# Altium footprint library epm240.PCBLIB: 11 footprints
Each footprint in its own frame and in the unit in brackets; x right, y up, seen from the top. Pads: shape width x height; smd on the part's side, far side on the other; paste and mask are expansions set on the pad; w line width, h text height; cw(c..) or ccw(c..) is an arc to the next point about the centre after c.
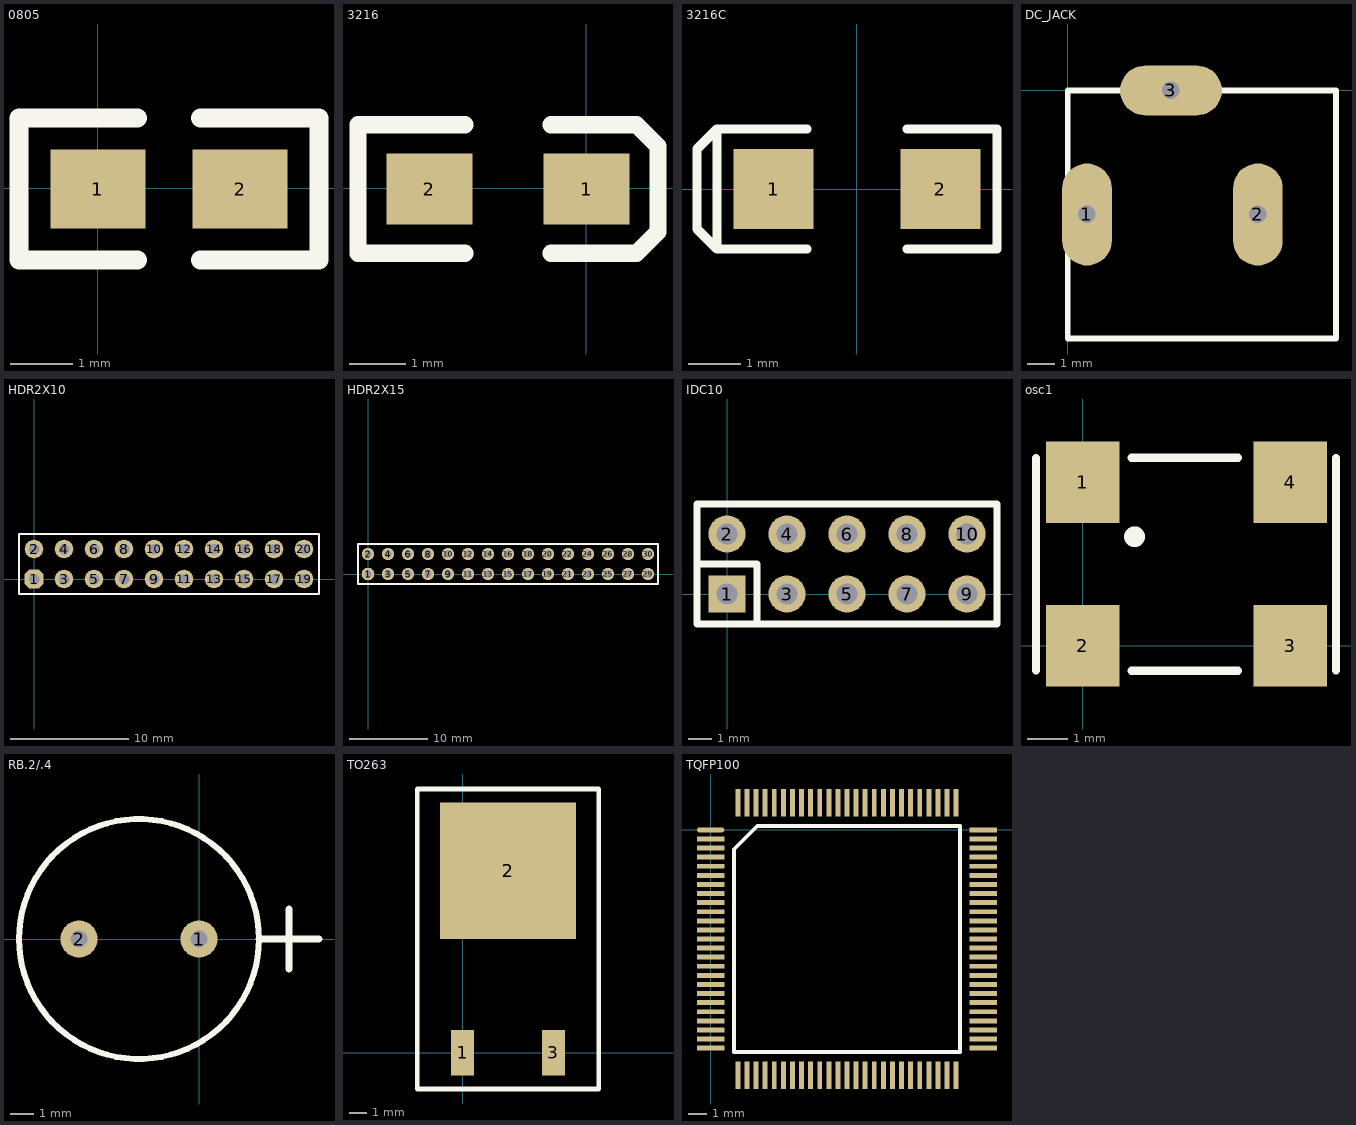
[diagram p0: the footprints below, top view; thin cyan lines are the x and y axes]

## 0805 [mil]
pads (2):
  rect 60x50 smd: 1(0.11,-0.39) 2(90.11,-0.39)
TopOverlay:
  lines w12: 25.11,-45.39 -49.89,-45.39 -49.89,44.61 25.11,44.61 ; 65.11,-45.39 140.11,-45.39 140.11,44.61 65.11,44.61

## 3216 [mil]
pads (2):
  rect 60x50 smd: 1(0.11,-0.39) 2(-109.89,-0.39)
TopOverlay:
  lines w12: -84.89,-45.39 -159.89,-45.39 -159.89,44.61 -84.89,44.61 ; -24.89,-45.39 35.11,-45.39 50.11,-30.39 50.11,29.61 35.11,44.61 -24.89,44.61

## 3216C [mil]
pads (2):
  rect 60x60 smd: 1(-62.47,0.11) 2(62.53,0.11)
TopOverlay:
  lines w7: -37.47,-44.89 -104.97,-44.89 ; -37.47,45.11 -104.97,45.11 ; 37.53,-44.89 105.03,-44.89 105.03,45.11 37.53,45.11 ; -104.97,-44.89 -104.97,45.11 ; -104.97,-44.89 -119.97,-29.89 -119.97,30.11 -104.97,45.11

## DC_JACK [mm]
pads (3):
  oval 1.8x3.7 hole 0.635: 1(0.7,-4.5) 2(6.9,-4.5)
  oval 3.7x1.8 hole 0.635: 3(3.748,0)
TopOverlay:
  lines w0.203: 0,-9 9.736,-9 9.736,0 0,0 0,-9

## HDR2X10 [mil]
pads (20):
  oct 62x62 hole 35: 1(0,0)
  round 62 hole 35: 2(0,100) 3(100,0) 4(100,100) 5(200,0) 6(200,100) 7(300,0) 8(300,100) 9(400,0) 10(400,100) 11(500,0) 12(500,100) 13(600,0) 14(600,100) 15(700,0) 16(700,100) 17(800,0) 18(800,100) 19(900,0) 20(900,100)
TopOverlay:
  lines w8: -50,-50 25,-50 950,-50 950,150 25,150 -50,150 -50,-50

## HDR2X15 [mil]
pads (30):
  oct 62x62 hole 35: 1(0,0)
  round 62 hole 35: 2(0,100) 3(100,0) 4(100,100) 5(200,0) 6(200,100) 7(300,0) 8(300,100) 9(400,0) 10(400,100) 11(500,0) 12(500,100) 13(600,0) 14(600,100) 15(700,0) 16(700,100) 17(800,0) 18(800,100) 19(900,0) 20(900,100) 21(1000,0) 22(1000,100) 23(1100,0) 24(1100,100) 25(1200,0) 26(1200,100) 27(1300,0) 28(1300,100) 29(1400,0) 30(1400,100)
TopOverlay:
  lines w8: -50,-50 1450,-50 1450,150 -50,150 -50,-50

## IDC10 [mil]
pads (10):
  rect 62x62 hole 35: 1(0,0)
  round 62 hole 35: 2(0,100) 3(100,0) 4(100,100) 5(200,0) 6(200,100) 7(300,0) 8(300,100) 9(400,0) 10(400,100)
TopOverlay:
  lines w12: -50,50 50,50 50,-50 ; -50,-50 450,-50 450,150 -50,150 -50,-50

## osc1 [mm]
pads (4):
  rect 1.8x2 smd: 1(0,4) 2(0,0) 3(5.08,0) 4(5.08,4)
TopOverlay:
  circle w0.254: c1.27,2.667 r0.127
  lines w0.2: -1.141,-0.61 -1.141,4.59 ; 1.2,-0.61 3.8,-0.61 ; 1.2,4.6 3.8,4.6 ; 6.2,-0.61 6.2,4.59

## RB.2/.4 [mil]
pads (2):
  round 62 hole 28: 1(0,0) 2(-200,0)
TopOverlay:
  circle w10: c-100,0 r200
  lines w12: 100,0 200,0 ; 150,-50 150,50

## TO263 [mm]
pads (3):
  rect 1.27x2.54 smd: 1(0,0) 3(5.08,0)
  rect 7.62x7.62 smd: 2(2.54,10.16)
TopOverlay:
  lines w0.254: -2.54,-2.032 -2.54,0 -2.54,14.732 7.62,14.732 7.62,-2.032 -2.54,-2.032

## TQFP100 [mm]
pads (100):
  oval 1.5x0.27 smd: 1(0,0)
  rect 1.5x0.27 smd: 2(0,-0.5) 3(0,-1) 4(0,-1.5) 5(0,-2) 6(0,-2.5) 7(0,-3) 8(0,-3.5) 9(0,-4) 10(0,-4.5) 11(0,-5) 12(0,-5.5) 13(0,-6) 14(0,-6.5) 15(0,-7) 16(0,-7.5) 17(0,-8) 18(0,-8.5) 19(0,-9) 20(0,-9.5) 21(0,-10) 22(0,-10.5) 23(0,-11) 24(0,-11.5) 25(0,-12) 51(15,-12) 52(15,-11.5) 53(15,-11) 54(15,-10.5) 55(15,-10) 56(15,-9.5) 57(15,-9) 58(15,-8.5) 59(15,-8) 60(15,-7.5) 61(15,-7) 62(15,-6.5) 63(15,-6) 64(15,-5.5) 65(15,-5) 66(15,-4.5) 67(15,-4) 68(15,-3.5) 69(15,-3) 70(15,-2.5) 71(15,-2) 72(15,-1.5) 73(15,-1) 74(15,-0.5) 75(15,0)
  rect 0.27x1.5 smd: 26(1.5,-13.5) 27(2,-13.5) 28(2.5,-13.5) 29(3,-13.5) 30(3.5,-13.5) 31(4,-13.5) 32(4.5,-13.5) 33(5,-13.5) 34(5.5,-13.5) 35(6,-13.5) 36(6.5,-13.5) 37(7,-13.5) 38(7.5,-13.5) 39(8,-13.5) 40(8.5,-13.5) 41(9,-13.5) 42(9.5,-13.5) 43(10,-13.5) 44(10.5,-13.5) 45(11,-13.5) 46(11.5,-13.5) 47(12,-13.5) 48(12.5,-13.5) 49(13,-13.5) 50(13.5,-13.5) 76(13.5,1.5) 77(13,1.5) 78(12.5,1.5) 79(12,1.5) 80(11.5,1.5) 81(11,1.5) 82(10.5,1.5) 83(10,1.5) 84(9.5,1.5) 85(9,1.5) 86(8.5,1.5) 87(8,1.5) 88(7.5,1.5) 89(7,1.5) 90(6.5,1.5) 91(6,1.5) 92(5.5,1.5) 93(5,1.5) 94(4.5,1.5) 95(4,1.5) 96(3.5,1.5) 97(3,1.5) 98(2.5,1.5) 99(2,1.5) 100(1.5,1.5)
TopOverlay:
  lines w0.2: 1.285,-12.215 13.715,-12.215 13.715,0.215 2.57,0.215 1.285,-1.07 1.285,-12.215